# EAGLE library part CLX6F-FKC-CKNNQDGBB7A363 (library OPTO)
Red, Green, Blue (RGB) 622nm Red, 530nm Green, 470nm Blue LED Indication - Discrete 2.1V Red, 2.7V Green, 3V Blue 6-SMD, J-Lead
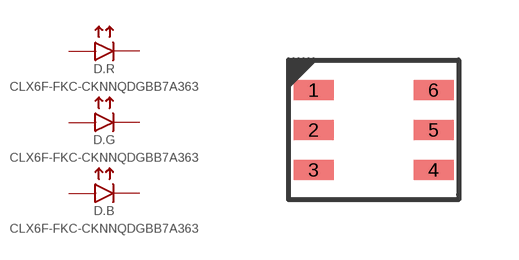
[diagram p5: symbol with the pads of CLX6F-FKC; footprint CLX6F-FKC]

Designator prefix D; gates .R=LED .G=LED .B=LED

## CLX6F-FKC-CKNNQDGBB7A363 (DIGIKEY: CLX6F-FKC-CKNNQDGBB7A363CT-ND; HEIGHT: 2.9; PRICE_PER: 0.23; VALUE: RGB LED)  [CLX6F-FKC]
1  .B:K
2  .G:K
3  .R:K
4  .R:A
5  .G:A
6  .B:A

## Footprint CLX6F-FKC (pad centres in mm)
smd 1 x 0.5: 1 -1.5,1; 2 -1.5,0; 3 -1.5,-1; 4 1.5,-1; 5 1.5,0; 6 1.5,1